# EAGLE library part MPQ4420 (library ICs)
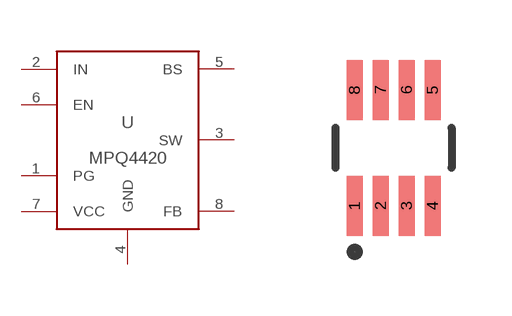
[diagram p28: symbol with the pads of TSOT23-8; footprint TSOT23-8]

Designator prefix U

## MPQ4420 (MFG: Monolithic Power Systems; PN: MPQ4420GJ-AEC1-Z; VALUE: MPQ4420)  [TSOT23-8]
1  PG
2  IN
3  SW
4  GND
5  BS
6  EN
7  VCC
8  FB

## Footprint TSOT23-8 (pad centres in mm)
smd 0.4 x 1.5: 1 -0.975,-1.45; 2 -0.325,-1.45; 3 0.325,-1.45; 4 0.975,-1.45; 5 0.975,1.45; 6 0.325,1.45; 7 -0.325,1.45; 8 -0.975,1.45